# Altium integrated library 2501-2-00-80-00-00-07-0.IntLib: 1 symbol
Pins are listed as number, name and electrical type; pins without a type are passive.

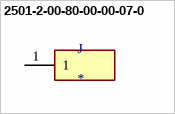
[diagram p0: symbol 2501-2-00-80-00-00-07-0]

## 2501-2-00-80-00-00-07-0
designator J
Terminal Turret Connector Single End 0.219 _5.56mm_ Tin; MP: 2501-2-00-80-00-00-07-0; MF: Mill-Max Manufacturing; Value: *; Package: None; SnapEDA_Link: https://www.snapeda.com/parts/2501-2-00-80-00-00-07-0/Mill-Max%20Manufacturing%20Corp./view-part/565035/?ref=snap; Digi-Key_Part_Number: ED90581-ND; Digi-Key_Purchase_URL: https://www.digikey.com/product-detail/en/mill-max-manufacturing-corp/2501-2-00-80-00-00-07-0/ED90581-ND/2639490?utm_source=snapeda&utm_medium=aggregator&utm_campaign=symbol
footprint MILMAX_2501-2-00-80-00-00-07-0
pins: 1